# EAGLE library part REF3212 (library brett)
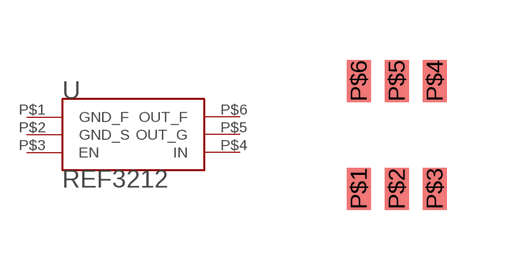
[diagram p11: symbol with the pads of REF3212; footprint REF3212]

Designator prefix -

## REF3212  [REF3212]
P$1  GND_F
P$2  GND_S
P$3  EN
P$4  IN
P$5  OUT_G
P$6  OUT_F

## Footprint REF3212 (pad centres in mm)
smd 0.6 x 1.05: P$1 -0.9,-1.45; P$2 0.05,-1.45; P$3 1,-1.45; P$4 1,1.25; P$5 0.05,1.25; P$6 -0.9,1.25